# Altium schematic symbol library new_component.SchLib: 5 symbols
Pins are listed as number, name and electrical type; pins without a type are passive.

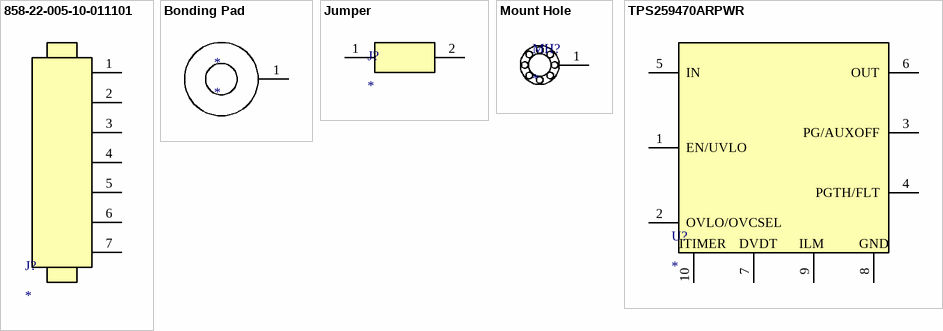
[diagram p0: symbols 858-22-005-10-011101 to TPS259470ARPWR]

## 858-22-005-10-011101
designator J?
spring load
footprint 858-22-005-10-011101; pin to pad 6>none 7>none
pins: 1, 2, 3, 4, 5, 6, 7

## Bonding Pad
designator *
footprint Mount hole
pins: 1

## Jumper
designator J?
DNP
pins: 1, 2

## Mount Hole
designator MH?
footprint Mount hole
pins: 1

## TPS259470ARPWR
designator U?
footprint IC_TPS25974ARPWR
pins: 1 EN/UVLO, 2 OVLO/OVCSEL, 3 PG/AUXOFF, 4 PGTH/FLT, 5 IN, 6 OUT, 7 DVDT, 8 GND, 9 ILM, 10 ITIMER